# Altium footprint library Schlib1.PcbLib: 2 footprints
Each footprint in its own frame and in the unit in brackets; x right, y up, seen from the top. Pads: shape width x height; smd on the part's side, far side on the other; paste and mask are expansions set on the pad; w line width, h text height; cw(c..) or ccw(c..) is an arc to the next point about the centre after c.
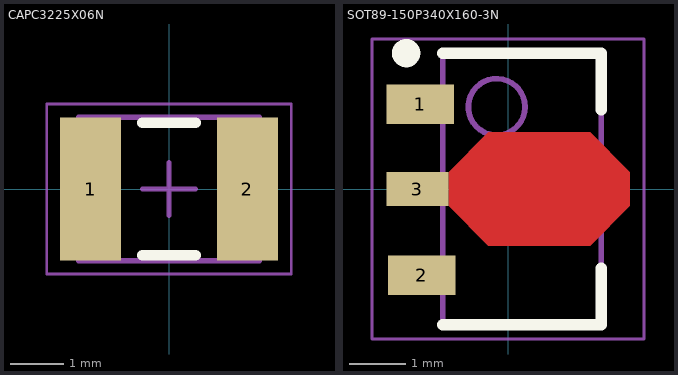
[diagram p0: the footprints below, top view; thin cyan lines are the x and y axes]

## CAPC3225X06N [mm] "Chip Capacitor, 2-Leads, Body 3,20x2,50mm, IPC Medium Density"
height 0.6
pads (2):
  rect 1.15x2.7 smd: 1(-1.475,0) 2(1.475,0)
Top Overlay:
  lines w0.2: -0.5,-1.25 0.5,-1.25 ; -0.5,1.25 0.5,1.25
Mechanical 13:
  lines w0.1: -1.7,-1.35 -1.7,1.35 1.7,1.35 1.7,-1.35 -1.7,-1.35
Mechanical 15:
  lines w0.05: -2.3,-1.6 -2.3,1.6 2.3,1.6 2.3,-1.6 -2.3,-1.6
  lines w0.1: -0.5,0 0.5,0 ; 0,-0.5 0,0.5
3D body: height 0.6, standoff 0, extent -1.3,-1.35 1.3,1.35
3D body: height 0.6, standoff 0, extent -1.7,-1.35 -1.3,1.35
3D body: height 0.6, standoff 0, extent 1.3,-1.35 1.7,1.35

## SOT89-150P340X160-3N [mm] "SOT89, 3-Leads, Body 4,60x2,60mm, Pitch 1,50mm, Lead Span 3,4mm, IPC Medium Density"
height 1.6
pads (3):
  rect 1.2x0.7 smd: 1(-1.55,1.5) 2(-1.524,-1.524)
  rect 1.1x0.6 smd: 3(-1.6,0)
Top Layer:
  region: -1.05,0.3 -0.35,1 1.45,1 2.15,0.3 2.15,-0.3 1.45,-1 -0.35,-1 -1.05,-0.3
Top Overlay:
  circle w0.25: c-1.8,2.4 r0.125
  lines w0.2: -1.15,-2.4 1.65,-2.4 1.65,-1.4 ; -1.15,2.4 1.65,2.4 1.65,1.4
Mechanical 13:
  circle w0.1: c-0.2,1.45 r0.5
  lines w0.1: -1.15,-2.4 -1.15,2.4 1.65,2.4 1.65,-2.4 -1.15,-2.4
Mechanical 15:
  lines w0.05: -2.4,-2.65 -2.4,2.65 2.4,2.65 2.4,-2.65 -2.4,-2.65
  lines w0.1: -0.25,0 0.75,0 ; 0.25,-0.5 0.25,0.5
3D body: height 1.6, standoff 0, extent -1.15,-2.4 1.65,2.4